# Altium integrated library Linear Technology Power Management Power Control.IntLib: 661 symbols (part 9 of 43)
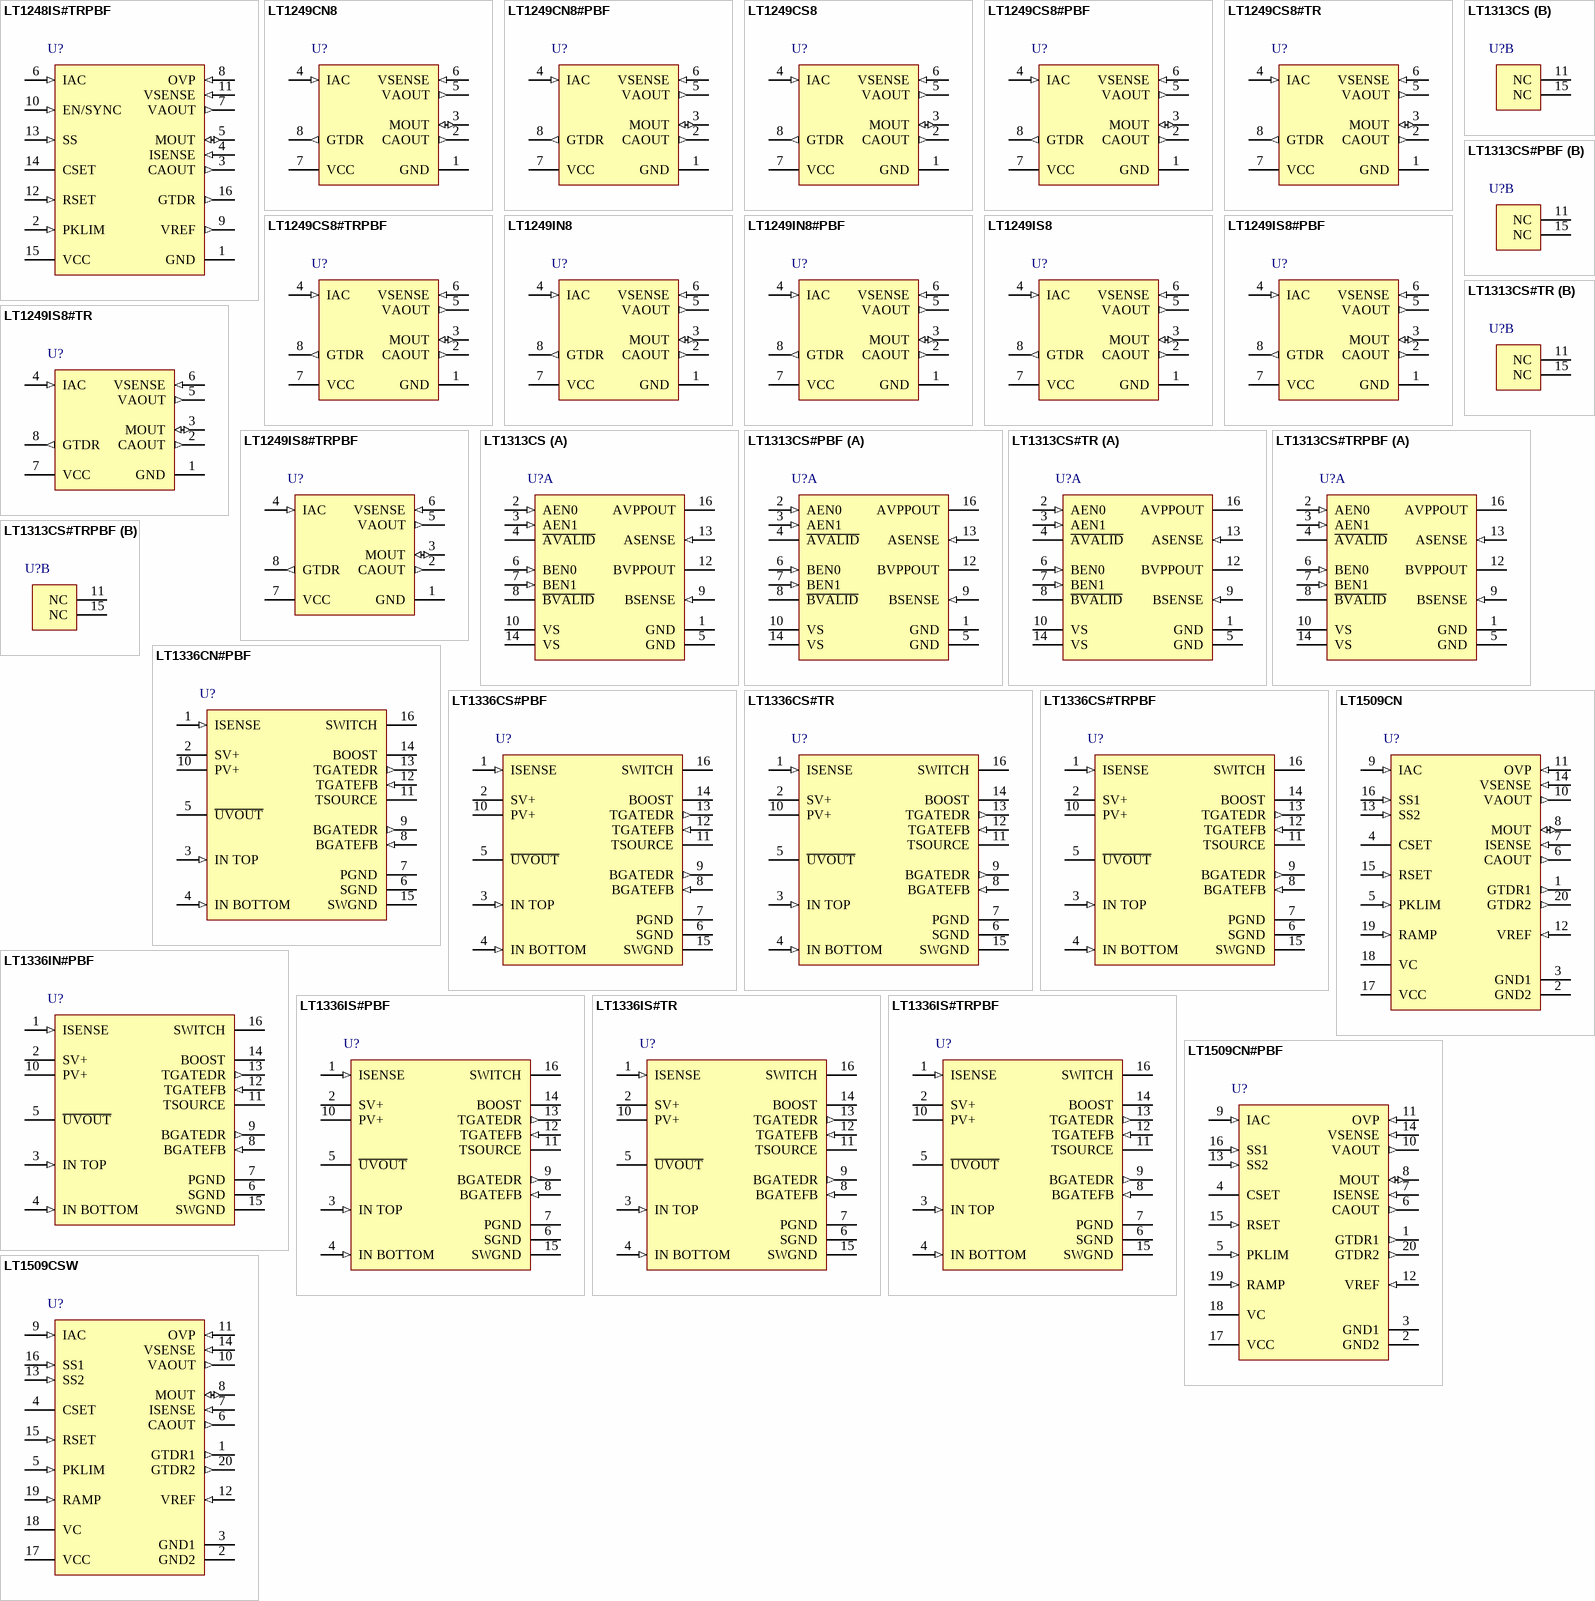
[diagram p27: symbols LT1248IS#TRPBF to LT1509CSW]

## LT1248IS#TRPBF
designator U?
Power Factor Controller, 16-pin SOP (S-16), -40 to 125 degC, Pb-Free, Tape and Reel; Manufacturer: Linear Technology; PartNumber: LT1248IS#TRPBF; DatasheetVersion: Rev. D; PackageVersion: Rev. G, 05/2012; PackageReference: S-16; PackageDescription: 16-Pin Plastic Small Outline, Body 9.9 x 3.9 mm, Pitch 1.27 mm; Supplier 1: Digi-Key; Supplier Part Number 1: LT1248IS#TRPBF-ND; Supplier 2: Newark; Supplier Part Number 2: 57M3024; Packing: Tape and Reel; RoHS: TRUE; Mounting Technology: Surface Mount; ComponentLink1Description: Manufacturer URL; ComponentLink1URL: http://www.linear.com/; ComponentLink2Description: Datasheet; ComponentLink2URL: http://cds.linear.com/docs/en/datasheet/1248fd.pdf; ComponentLink3Description: Package Specification; ComponentLink3URL: http://cds.linear.com/docs/en/packaging/S16%2005-08-1610%20Rev%20G.pdf
footprint LT-S-16_N (SOP, 16-Leads, Body 10x4mm, Pitch 1.27mm, IPC Medium Density)
footprint LT-S-16_L (SOP, 16-Leads, Body 10x4mm, Pitch 1.27mm, IPC High Density)
footprint LT-S-16_M (SOP, 16-Leads, Body 10x4mm, Pitch 1.27mm, IPC Low Density)
pins: 1 GND (power), 2 PKLIM (in) "The threshold of the peak current limit comparator is GND. To set current limit, a resistor divider can be connected from VREF to current sense resistor", 3 CAOUT (out) "This is the output of the current amplifier that senses and forces the line current to follow the reference signal that comes from the multiplier by commanding the pulse width modulator. When CAOUT is low, the modulator has (See Datasheet)", 4 ISENSE (in) "This is the inverting input of the current amplifier. This pin is clamped at - 0.6V by an ESD protection diode.", 5 MOUT (io) "This is the multiplier high impedance current output and the noninverting input of the current amplifier. This pin is clamped at - 0.6V and 2V.", 6 IAC (in) "This is the AC line voltage sensing input to the multiplier. It is a current input that is biased at 2V to minimize the crossover dead zone caused by low line voltage. At the pin, a 32k resistor is in series with the current (See Datasheet)", 7 VAOUT (out) "This is the output of the voltage error amplifier. The output is clamped at 13.5V. When the output goes below 2.5V, the multiplier output current is zero.", 8 OVP (in) "This is the input to the overvoltage comparator. The threshold is 1.05 times the reference voltage. When the comparator trips, the multiplier is quickly inhibited and outputs no current. Figure 4 in the Applications (See Datasheet)", 9 VREF (out) "This is the 7.5V reference. When either VCC or EN/SYNC goes low, VREF will stay at 0V. VREF biases most of the internal circuity and can source up to 5mA externally.", 10 EN/SYNC (in) "This pin has two functions. When it goes below 2.6V, the chip goes into shutdown mode and draws little current. Pulses at this pin that go below the 5V threshold will synchronize the chip. The synchronizing pulses should (See Datasheet)", 11 VSENSE (in) "This is the inverting input to the voltage amplifier.", 12 RSET (in) "A resistor from RSET to GND sets the oscillator charging current and the maximum multiplier output current which is used to limit the maximum line current.", 13 SS (in) "Soft-Start. When either VCC or EN/SYNC goes low, the SS pin will stay at 0V. With a capacitor from the pin to GND, the 12mA charging current slowly brings up the SS to 8V; below 7.5V SS is the reference input to the voltage (See Datasheet)", 14 CSET "The capacitor from this pin to GND, and RSET, determine oscillator frequency. The oscillator ramp is 5V, and the frequency = 1.5/(RSET x CSET).", 15 VCC (power) "This is the supply for the chip. The LT1248 has a very fast gate driver required to fast charge high power MOSFET gate capacitance. High current spikes occur during charging. For good supply bypass, a 0.1uF ceramic capacitor (See Datasheet)", 16 GTDR (out) "The MOSFET gate driver is a 1.5A fast totem pole output. It is clamped at 15V, but capacitive loads like MOSFET gates may cause overshoot. A gate series resistor of at least 5ohm will prevent the overshoot."

## LT1249CN8
designator U?
Power Factor Controller, 8-pin DIP (N8-8), 0 to 100 degC; Manufacturer: Linear Technology; PartNumber: LT1249CN8; DatasheetVersion: Rev. B; PackageVersion: Rev. I, 07/2011; PackageReference: N8-8; PackageDescription: 8-Pin PDIP, Body 10.16 x 6.48 mm, Pitch 2.54 mm; Supplier 1: Digi-Key; Supplier Part Number 1: LT1249CN8-ND; RoHS: FALSE; Mounting Technology: Through Hole; ComponentLink1Description: Manufacturer URL; ComponentLink1URL: http://www.linear.com/; ComponentLink2Description: Datasheet; ComponentLink2URL: http://cds.linear.com/docs/en/datasheet/1249fbs.pdf; ComponentLink3Description: Package Specification; ComponentLink3URL: http://www.linear.com/docs/en/packaging/05081510_I_N8.pdf
footprint LT-N8-8 (DIP, 8-Leads, Body 10.15x6.85mm, Pitch 2.54mm)
pins: 1 GND (power) "Ground.", 2 CAOUT (out) "This is the output of the current amplifier that senses and forces the line current to follow the reference signal that comes from the multiplier by commanding the pulse width modulator. When CAOUT is low, the modulator has (See Datasheet)", 3 MOUT (io) "The multiplier current goes out of this pin through the 4k resistor RMOUT. The voltage developed across RMOUT is the reference voltage of the current loop and it is limited to 1.1V. The noninverting input of the current (See Datasheet)", 4 IAC (in) "This is the AC line voltage sensing input to the multiplier. It is a current input that is biased at 2V to minimize the crossover dead zone caused by low line voltage. A 32k resistor is in series with the current input, so (See Datasheet)", 5 VAOUT (out) "This is the output of the voltage error amplifier. The output is clamped at 12V. When the output goes below 1.5V, the multiplier output current is zero.", 6 VSENSE (in) "This is the inverting input to the voltage amplifier.", 7 VCC (power) "This is the supply of the chip. The LT1249 has a very fast gate driver required to fast charge high power MOSFET gate capacitance. High current spikes occur during charging. For good supply bypass, a 0.1uF ceramic capacitor (See Datasheet)", 8 GTDR (out) "The MOSFET gate driver is a 1.5A fast totem pole output. It is clamped at 15V. Capacitive loads like MOSFET gates may cause overshoot. A gate series resistor of at least 5ohm will prevent the overshoot"

## LT1249CN8#PBF
designator U?
Power Factor Controller, 8-pin DIP (N8-8), 0 to 100 degC, Pb-Free; Manufacturer: Linear Technology; PartNumber: LT1249CN8#PBF; DatasheetVersion: Rev. B; PackageVersion: Rev. I, 07/2011; PackageReference: N8-8; PackageDescription: 8-Pin PDIP, Body 10.16 x 6.48 mm, Pitch 2.54 mm; Supplier 1: Digi-Key; Supplier Part Number 1: LT1249CN8#PBF-ND; Supplier 2: Farnell; Supplier Part Number 2: 1500514; Supplier 3: Newark; Supplier Part Number 3: 57M3026; RoHS: TRUE; Mounting Technology: Through Hole; ComponentLink1Description: Manufacturer URL; ComponentLink1URL: http://www.linear.com/; ComponentLink2Description: Datasheet; ComponentLink2URL: http://cds.linear.com/docs/en/datasheet/1249fbs.pdf; ComponentLink3Description: Package Specification; ComponentLink3URL: http://www.linear.com/docs/en/packaging/05081510_I_N8.pdf
footprint LT-N8-8 (DIP, 8-Leads, Body 10.15x6.85mm, Pitch 2.54mm)
pins: 1 GND (power) "Ground.", 2 CAOUT (out) "This is the output of the current amplifier that senses and forces the line current to follow the reference signal that comes from the multiplier by commanding the pulse width modulator. When CAOUT is low, the modulator has (See Datasheet)", 3 MOUT (io) "The multiplier current goes out of this pin through the 4k resistor RMOUT. The voltage developed across RMOUT is the reference voltage of the current loop and it is limited to 1.1V. The noninverting input of the current (See Datasheet)", 4 IAC (in) "This is the AC line voltage sensing input to the multiplier. It is a current input that is biased at 2V to minimize the crossover dead zone caused by low line voltage. A 32k resistor is in series with the current input, so (See Datasheet)", 5 VAOUT (out) "This is the output of the voltage error amplifier. The output is clamped at 12V. When the output goes below 1.5V, the multiplier output current is zero.", 6 VSENSE (in) "This is the inverting input to the voltage amplifier.", 7 VCC (power) "This is the supply of the chip. The LT1249 has a very fast gate driver required to fast charge high power MOSFET gate capacitance. High current spikes occur during charging. For good supply bypass, a 0.1uF ceramic capacitor (See Datasheet)", 8 GTDR (out) "The MOSFET gate driver is a 1.5A fast totem pole output. It is clamped at 15V. Capacitive loads like MOSFET gates may cause overshoot. A gate series resistor of at least 5ohm will prevent the overshoot"

## LT1249CS8
designator U?
Power Factor Controller, 8-pin SOIC (S8-8), 0 to 100 degC; Manufacturer: Linear Technology; PartNumber: LT1249CS8; DatasheetVersion: Rev. B; PackageVersion: Rev. G, 03/2012; PackageReference: S8-8; PackageDescription: 8-Pin Plastic Small Outline (Narrow .150 Inch), Body 4.9 x 3.9 mm, Pitch 1.27 mm; Supplier 1: Digi-Key; Supplier Part Number 1: LT1249CS8-ND; RoHS: FALSE; Mounting Technology: Surface Mount; ComponentLink1Description: Manufacturer URL; ComponentLink1URL: http://www.linear.com/; ComponentLink2Description: Datasheet; ComponentLink2URL: http://cds.linear.com/docs/en/datasheet/1249fbs.pdf; ComponentLink3Description: Package Specification; ComponentLink3URL: http://cds.linear.com/docs/en/packaging/05081610_G_SO8.pdf
footprint LT-S8-8_N (SOIC, 8-Leads, Body 5x4mm, Pitch 1.27mm, IPC Medium Density)
footprint LT-S8-8_L (SOIC, 8-Leads, Body 5x4mm, Pitch 1.27mm, IPC High Density)
footprint LT-S8-8_M (SOIC, 8-Leads, Body 5x4mm, Pitch 1.27mm, IPC Low Density)
pins: 1 GND (power) "Ground.", 2 CAOUT (out) "This is the output of the current amplifier that senses and forces the line current to follow the reference signal that comes from the multiplier by commanding the pulse width modulator. When CAOUT is low, the modulator has (See Datasheet)", 3 MOUT (io) "The multiplier current goes out of this pin through the 4k resistor RMOUT. The voltage developed across RMOUT is the reference voltage of the current loop and it is limited to 1.1V. The noninverting input of the current (See Datasheet)", 4 IAC (in) "This is the AC line voltage sensing input to the multiplier. It is a current input that is biased at 2V to minimize the crossover dead zone caused by low line voltage. A 32k resistor is in series with the current input, so (See Datasheet)", 5 VAOUT (out) "This is the output of the voltage error amplifier. The output is clamped at 12V. When the output goes below 1.5V, the multiplier output current is zero.", 6 VSENSE (in) "This is the inverting input to the voltage amplifier.", 7 VCC (power) "This is the supply of the chip. The LT1249 has a very fast gate driver required to fast charge high power MOSFET gate capacitance. High current spikes occur during charging. For good supply bypass, a 0.1uF ceramic capacitor (See Datasheet)", 8 GTDR (out) "The MOSFET gate driver is a 1.5A fast totem pole output. It is clamped at 15V. Capacitive loads like MOSFET gates may cause overshoot. A gate series resistor of at least 5ohm will prevent the overshoot"

## LT1249CS8#PBF
designator U?
Power Factor Controller, 8-pin SOIC (S8-8), 0 to 100 degC, Pb-Free; Manufacturer: Linear Technology; PartNumber: LT1249CS8#PBF; DatasheetVersion: Rev. B; PackageVersion: Rev. G, 03/2012; PackageReference: S8-8; PackageDescription: 8-Pin Plastic Small Outline (Narrow .150 Inch), Body 4.9 x 3.9 mm, Pitch 1.27 mm; Supplier 1: Digi-Key; Supplier Part Number 1: LT1249CS8#PBF-ND; Supplier 2: Farnell; Supplier Part Number 2: 1273703; RoHS: TRUE; Mounting Technology: Surface Mount; ComponentLink1Description: Manufacturer URL; ComponentLink1URL: http://www.linear.com/; ComponentLink2Description: Datasheet; ComponentLink2URL: http://cds.linear.com/docs/en/datasheet/1249fbs.pdf; ComponentLink3Description: Package Specification; ComponentLink3URL: http://cds.linear.com/docs/en/packaging/05081610_G_SO8.pdf
footprint LT-S8-8_N (SOIC, 8-Leads, Body 5x4mm, Pitch 1.27mm, IPC Medium Density)
footprint LT-S8-8_L (SOIC, 8-Leads, Body 5x4mm, Pitch 1.27mm, IPC High Density)
footprint LT-S8-8_M (SOIC, 8-Leads, Body 5x4mm, Pitch 1.27mm, IPC Low Density)
pins: 1 GND (power) "Ground.", 2 CAOUT (out) "This is the output of the current amplifier that senses and forces the line current to follow the reference signal that comes from the multiplier by commanding the pulse width modulator. When CAOUT is low, the modulator has (See Datasheet)", 3 MOUT (io) "The multiplier current goes out of this pin through the 4k resistor RMOUT. The voltage developed across RMOUT is the reference voltage of the current loop and it is limited to 1.1V. The noninverting input of the current (See Datasheet)", 4 IAC (in) "This is the AC line voltage sensing input to the multiplier. It is a current input that is biased at 2V to minimize the crossover dead zone caused by low line voltage. A 32k resistor is in series with the current input, so (See Datasheet)", 5 VAOUT (out) "This is the output of the voltage error amplifier. The output is clamped at 12V. When the output goes below 1.5V, the multiplier output current is zero.", 6 VSENSE (in) "This is the inverting input to the voltage amplifier.", 7 VCC (power) "This is the supply of the chip. The LT1249 has a very fast gate driver required to fast charge high power MOSFET gate capacitance. High current spikes occur during charging. For good supply bypass, a 0.1uF ceramic capacitor (See Datasheet)", 8 GTDR (out) "The MOSFET gate driver is a 1.5A fast totem pole output. It is clamped at 15V. Capacitive loads like MOSFET gates may cause overshoot. A gate series resistor of at least 5ohm will prevent the overshoot"

## LT1249CS8#TR
designator U?
Power Factor Controller, 8-pin SOIC (S8-8), 0 to 100 degC, Tape and Reel; Manufacturer: Linear Technology; PartNumber: LT1249CS8#TR; DatasheetVersion: Rev. B; PackageVersion: Rev. G, 03/2012; PackageReference: S8-8; PackageDescription: 8-Pin Plastic Small Outline (Narrow .150 Inch), Body 4.9 x 3.9 mm, Pitch 1.27 mm; Supplier 1: Digi-Key; Supplier Part Number 1: LT1249CS8#TR-ND; Packing: Tape and Reel; RoHS: FALSE; Mounting Technology: Surface Mount; ComponentLink1Description: Manufacturer URL; ComponentLink1URL: http://www.linear.com/; ComponentLink2Description: Datasheet; ComponentLink2URL: http://cds.linear.com/docs/en/datasheet/1249fbs.pdf; ComponentLink3Description: Package Specification; ComponentLink3URL: http://cds.linear.com/docs/en/packaging/05081610_G_SO8.pdf
footprint LT-S8-8_N (SOIC, 8-Leads, Body 5x4mm, Pitch 1.27mm, IPC Medium Density)
footprint LT-S8-8_L (SOIC, 8-Leads, Body 5x4mm, Pitch 1.27mm, IPC High Density)
footprint LT-S8-8_M (SOIC, 8-Leads, Body 5x4mm, Pitch 1.27mm, IPC Low Density)
pins: 1 GND (power) "Ground.", 2 CAOUT (out) "This is the output of the current amplifier that senses and forces the line current to follow the reference signal that comes from the multiplier by commanding the pulse width modulator. When CAOUT is low, the modulator has (See Datasheet)", 3 MOUT (io) "The multiplier current goes out of this pin through the 4k resistor RMOUT. The voltage developed across RMOUT is the reference voltage of the current loop and it is limited to 1.1V. The noninverting input of the current (See Datasheet)", 4 IAC (in) "This is the AC line voltage sensing input to the multiplier. It is a current input that is biased at 2V to minimize the crossover dead zone caused by low line voltage. A 32k resistor is in series with the current input, so (See Datasheet)", 5 VAOUT (out) "This is the output of the voltage error amplifier. The output is clamped at 12V. When the output goes below 1.5V, the multiplier output current is zero.", 6 VSENSE (in) "This is the inverting input to the voltage amplifier.", 7 VCC (power) "This is the supply of the chip. The LT1249 has a very fast gate driver required to fast charge high power MOSFET gate capacitance. High current spikes occur during charging. For good supply bypass, a 0.1uF ceramic capacitor (See Datasheet)", 8 GTDR (out) "The MOSFET gate driver is a 1.5A fast totem pole output. It is clamped at 15V. Capacitive loads like MOSFET gates may cause overshoot. A gate series resistor of at least 5ohm will prevent the overshoot"

## LT1249CS8#TRPBF
designator U?
Power Factor Controller, 8-pin SOIC (S8-8), 0 to 100 degC, Pb-Free, Tape and Reel; Manufacturer: Linear Technology; PartNumber: LT1249CS8#TRPBF; DatasheetVersion: Rev. B; PackageVersion: Rev. G, 03/2012; PackageReference: S8-8; PackageDescription: 8-Pin Plastic Small Outline (Narrow .150 Inch), Body 4.9 x 3.9 mm, Pitch 1.27 mm; Supplier 1: Digi-Key; Supplier Part Number 1: LT1249CS8#TRPBF-ND; Packing: Tape and Reel; RoHS: TRUE; Mounting Technology: Surface Mount; ComponentLink1Description: Manufacturer URL; ComponentLink1URL: http://www.linear.com/; ComponentLink2Description: Datasheet; ComponentLink2URL: http://cds.linear.com/docs/en/datasheet/1249fbs.pdf; ComponentLink3Description: Package Specification; ComponentLink3URL: http://cds.linear.com/docs/en/packaging/05081610_G_SO8.pdf
footprint LT-S8-8_N (SOIC, 8-Leads, Body 5x4mm, Pitch 1.27mm, IPC Medium Density)
footprint LT-S8-8_L (SOIC, 8-Leads, Body 5x4mm, Pitch 1.27mm, IPC High Density)
footprint LT-S8-8_M (SOIC, 8-Leads, Body 5x4mm, Pitch 1.27mm, IPC Low Density)
pins: 1 GND (power) "Ground.", 2 CAOUT (out) "This is the output of the current amplifier that senses and forces the line current to follow the reference signal that comes from the multiplier by commanding the pulse width modulator. When CAOUT is low, the modulator has (See Datasheet)", 3 MOUT (io) "The multiplier current goes out of this pin through the 4k resistor RMOUT. The voltage developed across RMOUT is the reference voltage of the current loop and it is limited to 1.1V. The noninverting input of the current (See Datasheet)", 4 IAC (in) "This is the AC line voltage sensing input to the multiplier. It is a current input that is biased at 2V to minimize the crossover dead zone caused by low line voltage. A 32k resistor is in series with the current input, so (See Datasheet)", 5 VAOUT (out) "This is the output of the voltage error amplifier. The output is clamped at 12V. When the output goes below 1.5V, the multiplier output current is zero.", 6 VSENSE (in) "This is the inverting input to the voltage amplifier.", 7 VCC (power) "This is the supply of the chip. The LT1249 has a very fast gate driver required to fast charge high power MOSFET gate capacitance. High current spikes occur during charging. For good supply bypass, a 0.1uF ceramic capacitor (See Datasheet)", 8 GTDR (out) "The MOSFET gate driver is a 1.5A fast totem pole output. It is clamped at 15V. Capacitive loads like MOSFET gates may cause overshoot. A gate series resistor of at least 5ohm will prevent the overshoot"

## LT1249IN8
designator U?
Power Factor Controller, 8-pin DIP (N8-8), -40 to 125 degC; Manufacturer: Linear Technology; PartNumber: LT1249IN8; DatasheetVersion: Rev. B; PackageVersion: Rev. I, 07/2011; PackageReference: N8-8; PackageDescription: 8-Pin PDIP, Body 10.16 x 6.48 mm, Pitch 2.54 mm; Supplier 1: Digi-Key; Supplier Part Number 1: LT1249IN8-ND; RoHS: FALSE; Mounting Technology: Through Hole; ComponentLink1Description: Manufacturer URL; ComponentLink1URL: http://www.linear.com/; ComponentLink2Description: Datasheet; ComponentLink2URL: http://cds.linear.com/docs/en/datasheet/1249fbs.pdf; ComponentLink3Description: Package Specification; ComponentLink3URL: http://www.linear.com/docs/en/packaging/05081510_I_N8.pdf
footprint LT-N8-8 (DIP, 8-Leads, Body 10.15x6.85mm, Pitch 2.54mm)
pins: 1 GND (power) "Ground.", 2 CAOUT (out) "This is the output of the current amplifier that senses and forces the line current to follow the reference signal that comes from the multiplier by commanding the pulse width modulator. When CAOUT is low, the modulator has (See Datasheet)", 3 MOUT (io) "The multiplier current goes out of this pin through the 4k resistor RMOUT. The voltage developed across RMOUT is the reference voltage of the current loop and it is limited to 1.1V. The noninverting input of the current (See Datasheet)", 4 IAC (in) "This is the AC line voltage sensing input to the multiplier. It is a current input that is biased at 2V to minimize the crossover dead zone caused by low line voltage. A 32k resistor is in series with the current input, so (See Datasheet)", 5 VAOUT (out) "This is the output of the voltage error amplifier. The output is clamped at 12V. When the output goes below 1.5V, the multiplier output current is zero.", 6 VSENSE (in) "This is the inverting input to the voltage amplifier.", 7 VCC (power) "This is the supply of the chip. The LT1249 has a very fast gate driver required to fast charge high power MOSFET gate capacitance. High current spikes occur during charging. For good supply bypass, a 0.1uF ceramic capacitor (See Datasheet)", 8 GTDR (out) "The MOSFET gate driver is a 1.5A fast totem pole output. It is clamped at 15V. Capacitive loads like MOSFET gates may cause overshoot. A gate series resistor of at least 5ohm will prevent the overshoot"

## LT1249IN8#PBF
designator U?
Power Factor Controller, 8-pin DIP (N8-8), -40 to 125 degC, Pb-Free; Manufacturer: Linear Technology; PartNumber: LT1249IN8#PBF; DatasheetVersion: Rev. B; PackageVersion: Rev. I, 07/2011; PackageReference: N8-8; PackageDescription: 8-Pin PDIP, Body 10.16 x 6.48 mm, Pitch 2.54 mm; Supplier 1: Digi-Key; Supplier Part Number 1: LT1249IN8#PBF-ND; RoHS: TRUE; Mounting Technology: Through Hole; ComponentLink1Description: Manufacturer URL; ComponentLink1URL: http://www.linear.com/; ComponentLink2Description: Datasheet; ComponentLink2URL: http://cds.linear.com/docs/en/datasheet/1249fbs.pdf; ComponentLink3Description: Package Specification; ComponentLink3URL: http://www.linear.com/docs/en/packaging/05081510_I_N8.pdf
footprint LT-N8-8 (DIP, 8-Leads, Body 10.15x6.85mm, Pitch 2.54mm)
pins: 1 GND (power) "Ground.", 2 CAOUT (out) "This is the output of the current amplifier that senses and forces the line current to follow the reference signal that comes from the multiplier by commanding the pulse width modulator. When CAOUT is low, the modulator has (See Datasheet)", 3 MOUT (io) "The multiplier current goes out of this pin through the 4k resistor RMOUT. The voltage developed across RMOUT is the reference voltage of the current loop and it is limited to 1.1V. The noninverting input of the current (See Datasheet)", 4 IAC (in) "This is the AC line voltage sensing input to the multiplier. It is a current input that is biased at 2V to minimize the crossover dead zone caused by low line voltage. A 32k resistor is in series with the current input, so (See Datasheet)", 5 VAOUT (out) "This is the output of the voltage error amplifier. The output is clamped at 12V. When the output goes below 1.5V, the multiplier output current is zero.", 6 VSENSE (in) "This is the inverting input to the voltage amplifier.", 7 VCC (power) "This is the supply of the chip. The LT1249 has a very fast gate driver required to fast charge high power MOSFET gate capacitance. High current spikes occur during charging. For good supply bypass, a 0.1uF ceramic capacitor (See Datasheet)", 8 GTDR (out) "The MOSFET gate driver is a 1.5A fast totem pole output. It is clamped at 15V. Capacitive loads like MOSFET gates may cause overshoot. A gate series resistor of at least 5ohm will prevent the overshoot"

## LT1249IS8
designator U?
Power Factor Controller, 8-pin SOIC (S8-8), -40 to 125 degC; Manufacturer: Linear Technology; PartNumber: LT1249IS8; DatasheetVersion: Rev. B; PackageVersion: Rev. G, 03/2012; PackageReference: S8-8; PackageDescription: 8-Pin Plastic Small Outline (Narrow .150 Inch), Body 4.9 x 3.9 mm, Pitch 1.27 mm; Supplier 1: Digi-Key; Supplier Part Number 1: LT1249IS8-ND; RoHS: FALSE; Mounting Technology: Surface Mount; ComponentLink1Description: Manufacturer URL; ComponentLink1URL: http://www.linear.com/; ComponentLink2Description: Datasheet; ComponentLink2URL: http://cds.linear.com/docs/en/datasheet/1249fbs.pdf; ComponentLink3Description: Package Specification; ComponentLink3URL: http://cds.linear.com/docs/en/packaging/05081610_G_SO8.pdf
footprint LT-S8-8_N (SOIC, 8-Leads, Body 5x4mm, Pitch 1.27mm, IPC Medium Density)
footprint LT-S8-8_L (SOIC, 8-Leads, Body 5x4mm, Pitch 1.27mm, IPC High Density)
footprint LT-S8-8_M (SOIC, 8-Leads, Body 5x4mm, Pitch 1.27mm, IPC Low Density)
pins: 1 GND (power) "Ground.", 2 CAOUT (out) "This is the output of the current amplifier that senses and forces the line current to follow the reference signal that comes from the multiplier by commanding the pulse width modulator. When CAOUT is low, the modulator has (See Datasheet)", 3 MOUT (io) "The multiplier current goes out of this pin through the 4k resistor RMOUT. The voltage developed across RMOUT is the reference voltage of the current loop and it is limited to 1.1V. The noninverting input of the current (See Datasheet)", 4 IAC (in) "This is the AC line voltage sensing input to the multiplier. It is a current input that is biased at 2V to minimize the crossover dead zone caused by low line voltage. A 32k resistor is in series with the current input, so (See Datasheet)", 5 VAOUT (out) "This is the output of the voltage error amplifier. The output is clamped at 12V. When the output goes below 1.5V, the multiplier output current is zero.", 6 VSENSE (in) "This is the inverting input to the voltage amplifier.", 7 VCC (power) "This is the supply of the chip. The LT1249 has a very fast gate driver required to fast charge high power MOSFET gate capacitance. High current spikes occur during charging. For good supply bypass, a 0.1uF ceramic capacitor (See Datasheet)", 8 GTDR (out) "The MOSFET gate driver is a 1.5A fast totem pole output. It is clamped at 15V. Capacitive loads like MOSFET gates may cause overshoot. A gate series resistor of at least 5ohm will prevent the overshoot"

## LT1249IS8#PBF
designator U?
Power Factor Controller, 8-pin SOIC (S8-8), -40 to 125 degC, Pb-Free; Manufacturer: Linear Technology; PartNumber: LT1249IS8#PBF; DatasheetVersion: Rev. B; PackageVersion: Rev. G, 03/2012; PackageReference: S8-8; PackageDescription: 8-Pin Plastic Small Outline (Narrow .150 Inch), Body 4.9 x 3.9 mm, Pitch 1.27 mm; Supplier 1: Digi-Key; Supplier Part Number 1: LT1249IS8#PBF-ND; RoHS: TRUE; Mounting Technology: Surface Mount; ComponentLink1Description: Manufacturer URL; ComponentLink1URL: http://www.linear.com/; ComponentLink2Description: Datasheet; ComponentLink2URL: http://cds.linear.com/docs/en/datasheet/1249fbs.pdf; ComponentLink3Description: Package Specification; ComponentLink3URL: http://cds.linear.com/docs/en/packaging/05081610_G_SO8.pdf
footprint LT-S8-8_N (SOIC, 8-Leads, Body 5x4mm, Pitch 1.27mm, IPC Medium Density)
footprint LT-S8-8_L (SOIC, 8-Leads, Body 5x4mm, Pitch 1.27mm, IPC High Density)
footprint LT-S8-8_M (SOIC, 8-Leads, Body 5x4mm, Pitch 1.27mm, IPC Low Density)
pins: 1 GND (power) "Ground.", 2 CAOUT (out) "This is the output of the current amplifier that senses and forces the line current to follow the reference signal that comes from the multiplier by commanding the pulse width modulator. When CAOUT is low, the modulator has (See Datasheet)", 3 MOUT (io) "The multiplier current goes out of this pin through the 4k resistor RMOUT. The voltage developed across RMOUT is the reference voltage of the current loop and it is limited to 1.1V. The noninverting input of the current (See Datasheet)", 4 IAC (in) "This is the AC line voltage sensing input to the multiplier. It is a current input that is biased at 2V to minimize the crossover dead zone caused by low line voltage. A 32k resistor is in series with the current input, so (See Datasheet)", 5 VAOUT (out) "This is the output of the voltage error amplifier. The output is clamped at 12V. When the output goes below 1.5V, the multiplier output current is zero.", 6 VSENSE (in) "This is the inverting input to the voltage amplifier.", 7 VCC (power) "This is the supply of the chip. The LT1249 has a very fast gate driver required to fast charge high power MOSFET gate capacitance. High current spikes occur during charging. For good supply bypass, a 0.1uF ceramic capacitor (See Datasheet)", 8 GTDR (out) "The MOSFET gate driver is a 1.5A fast totem pole output. It is clamped at 15V. Capacitive loads like MOSFET gates may cause overshoot. A gate series resistor of at least 5ohm will prevent the overshoot"

## LT1249IS8#TR
designator U?
Power Factor Controller, 8-pin SOIC (S8-8), -40 to 125 degC, Tape and Reel; Manufacturer: Linear Technology; PartNumber: LT1249IS8#TR; DatasheetVersion: Rev. B; PackageVersion: Rev. G, 03/2012; PackageReference: S8-8; PackageDescription: 8-Pin Plastic Small Outline (Narrow .150 Inch), Body 4.9 x 3.9 mm, Pitch 1.27 mm; Supplier 1: Digi-Key; Supplier Part Number 1: LT1249IS8#TR-ND; Packing: Tape and Reel; RoHS: FALSE; Mounting Technology: Surface Mount; ComponentLink1Description: Manufacturer URL; ComponentLink1URL: http://www.linear.com/; ComponentLink2Description: Datasheet; ComponentLink2URL: http://cds.linear.com/docs/en/datasheet/1249fbs.pdf; ComponentLink3Description: Package Specification; ComponentLink3URL: http://cds.linear.com/docs/en/packaging/05081610_G_SO8.pdf
footprint LT-S8-8_N (SOIC, 8-Leads, Body 5x4mm, Pitch 1.27mm, IPC Medium Density)
footprint LT-S8-8_L (SOIC, 8-Leads, Body 5x4mm, Pitch 1.27mm, IPC High Density)
footprint LT-S8-8_M (SOIC, 8-Leads, Body 5x4mm, Pitch 1.27mm, IPC Low Density)
pins: 1 GND (power) "Ground.", 2 CAOUT (out) "This is the output of the current amplifier that senses and forces the line current to follow the reference signal that comes from the multiplier by commanding the pulse width modulator. When CAOUT is low, the modulator has (See Datasheet)", 3 MOUT (io) "The multiplier current goes out of this pin through the 4k resistor RMOUT. The voltage developed across RMOUT is the reference voltage of the current loop and it is limited to 1.1V. The noninverting input of the current (See Datasheet)", 4 IAC (in) "This is the AC line voltage sensing input to the multiplier. It is a current input that is biased at 2V to minimize the crossover dead zone caused by low line voltage. A 32k resistor is in series with the current input, so (See Datasheet)", 5 VAOUT (out) "This is the output of the voltage error amplifier. The output is clamped at 12V. When the output goes below 1.5V, the multiplier output current is zero.", 6 VSENSE (in) "This is the inverting input to the voltage amplifier.", 7 VCC (power) "This is the supply of the chip. The LT1249 has a very fast gate driver required to fast charge high power MOSFET gate capacitance. High current spikes occur during charging. For good supply bypass, a 0.1uF ceramic capacitor (See Datasheet)", 8 GTDR (out) "The MOSFET gate driver is a 1.5A fast totem pole output. It is clamped at 15V. Capacitive loads like MOSFET gates may cause overshoot. A gate series resistor of at least 5ohm will prevent the overshoot"

## LT1249IS8#TRPBF
designator U?
Power Factor Controller, 8-pin SOIC (S8-8), -40 to 125 degC, Pb-Free, Tape and Reel; Manufacturer: Linear Technology; PartNumber: LT1249IS8#TRPBF; DatasheetVersion: Rev. B; PackageVersion: Rev. G, 03/2012; PackageReference: S8-8; PackageDescription: 8-Pin Plastic Small Outline (Narrow .150 Inch), Body 4.9 x 3.9 mm, Pitch 1.27 mm; Supplier 1: Digi-Key; Supplier Part Number 1: LT1249IS8#TRPBF-ND; Supplier 2: Newark; Supplier Part Number 2: 57M3036; Packing: Tape and Reel; RoHS: TRUE; Mounting Technology: Surface Mount; ComponentLink1Description: Manufacturer URL; ComponentLink1URL: http://www.linear.com/; ComponentLink2Description: Datasheet; ComponentLink2URL: http://cds.linear.com/docs/en/datasheet/1249fbs.pdf; ComponentLink3Description: Package Specification; ComponentLink3URL: http://cds.linear.com/docs/en/packaging/05081610_G_SO8.pdf
footprint LT-S8-8_N (SOIC, 8-Leads, Body 5x4mm, Pitch 1.27mm, IPC Medium Density)
footprint LT-S8-8_L (SOIC, 8-Leads, Body 5x4mm, Pitch 1.27mm, IPC High Density)
footprint LT-S8-8_M (SOIC, 8-Leads, Body 5x4mm, Pitch 1.27mm, IPC Low Density)
pins: 1 GND (power) "Ground.", 2 CAOUT (out) "This is the output of the current amplifier that senses and forces the line current to follow the reference signal that comes from the multiplier by commanding the pulse width modulator. When CAOUT is low, the modulator has (See Datasheet)", 3 MOUT (io) "The multiplier current goes out of this pin through the 4k resistor RMOUT. The voltage developed across RMOUT is the reference voltage of the current loop and it is limited to 1.1V. The noninverting input of the current (See Datasheet)", 4 IAC (in) "This is the AC line voltage sensing input to the multiplier. It is a current input that is biased at 2V to minimize the crossover dead zone caused by low line voltage. A 32k resistor is in series with the current input, so (See Datasheet)", 5 VAOUT (out) "This is the output of the voltage error amplifier. The output is clamped at 12V. When the output goes below 1.5V, the multiplier output current is zero.", 6 VSENSE (in) "This is the inverting input to the voltage amplifier.", 7 VCC (power) "This is the supply of the chip. The LT1249 has a very fast gate driver required to fast charge high power MOSFET gate capacitance. High current spikes occur during charging. For good supply bypass, a 0.1uF ceramic capacitor (See Datasheet)", 8 GTDR (out) "The MOSFET gate driver is a 1.5A fast totem pole output. It is clamped at 15V. Capacitive loads like MOSFET gates may cause overshoot. A gate series resistor of at least 5ohm will prevent the overshoot"

## LT1313CS
designator U?
Dual PCMCIA VPP Driver / Regulator, 13 to 20 V Vin, 16-pin SOP (S-16), 0 to 70 degC; Manufacturer: Linear Technology; PartNumber: LT1313CS; PackageVersion: Rev. G, 05/2012; PackageReference: S-16; PackageDescription: 16-Pin Plastic Small Outline, Body 9.9 x 3.9 mm, Pitch 1.27 mm; Supplier 1: Digi-Key; Supplier Part Number 1: LT1313CS-ND; RoHS: FALSE; Mounting Technology: Surface Mount; ComponentLink1Description: Manufacturer URL; ComponentLink1URL: http://www.linear.com/; ComponentLink2Description: Datasheet; ComponentLink2URL: http://cds.linear.com/docs/en/datasheet/lt1313.pdf; ComponentLink3Description: Package Specification; ComponentLink3URL: http://cds.linear.com/docs/en/packaging/S16%2005-08-1610%20Rev%20G.pdf
footprint LT-S-16_N (SOP, 16-Leads, Body 10x4mm, Pitch 1.27mm, IPC Medium Density)
footprint LT-S-16_L (SOP, 16-Leads, Body 10x4mm, Pitch 1.27mm, IPC High Density)
footprint LT-S-16_M (SOP, 16-Leads, Body 10x4mm, Pitch 1.27mm, IPC Low Density)
part A pins: 1 GND (power) "The two ground pins must be connected together at all times.", 2 AEN0 (in) "The four digital input pins are high impedance inputs with approximately 20uA input current at 2.4V. The input thresholds are compatible with CMOS controllers and can be driven from either 5V or 3.3V CMOS logic. ESD (See Datasheet)", 3 AEN1 (in) "The four digital input pins are high impedance inputs with approximately 20uA input current at 2.4V. The input thresholds are compatible with CMOS controllers and can be driven from either 5V or 3.3V CMOS logic. ESD (See Datasheet)", 4 ~{AVALID} (oc) "These pins are open-collector NPN outputs which are driven low when the corresponding VPPOUT pin is in regulation, i.e., when it is above 11V. Two external 51k pull-up resistors are connected between these outputs and the (See Datasheet)", 5 GND (power) "The two ground pins must be connected together at all times.", 6 BEN0 (in) "The four digital input pins are high impedance inputs with approximately 20uA input current at 2.4V. The input thresholds are compatible with CMOS controllers and can be driven from either 5V or 3.3V CMOS logic. ESD (See Datasheet)", 7 BEN1 (in) "The four digital input pins are high impedance inputs with approximately 20uA input current at 2.4V. The input thresholds are compatible with CMOS controllers and can be driven from either 5V or 3.3V CMOS logic. ESD (See Datasheet)", 8 ~{BVALID} (oc) "These pins are open-collector NPN outputs which are driven low when the corresponding VPPOUT pin is in regulation, i.e., when it is above 11V. Two external 51k pull-up resistors are connected between these outputs and the (See Datasheet)", 9 BSENSE (in) "Two independent comparators and 4V references automatically switch the VPPOUT outputs from 5V to 3.3V depending upon the voltage sensed at the corresponding PCMCIA card socket VCC pin. The input current for these pins is (See Datasheet)", 10 VS (power) "Power is supplied to the device through the two supply pins which must be connected together at all times . The supply pins should be bypassed to ground if the device is more than six inches away from the main supply (See Datasheet)", 12 BVPPOUT (power) "Each regulated output supplies power to the two PCMCIA card VPP pins which are typically tied together at the socket. Each VPPOUT output is current limited to approximately 330mA. Thermal shutdown provides a second level of (See Datasheet)", 13 ASENSE (in) "Two independent comparators and 4V references automatically switch the VPPOUT outputs from 5V to 3.3V depending upon the voltage sensed at the corresponding PCMCIA card socket VCC pin. The input current for these pins is (See Datasheet)", 14 VS (power) "Power is supplied to the device through the two supply pins which must be connected together at all times . The supply pins should be bypassed to ground if the device is more than six inches away from the main supply (See Datasheet)", 16 AVPPOUT (power) "Each regulated output supplies power to the two PCMCIA card VPP pins which are typically tied together at the socket. Each VPPOUT output is current limited to approximately 330mA. Thermal shutdown provides a second level of (See Datasheet)"
part B pins: 11 NC, 15 NC

## LT1313CS#PBF
designator U?
Dual PCMCIA VPP Driver / Regulator, 13 to 20 V Vin, 16-pin SOP (S-16), 0 to 70 degC, Pb-Free; Manufacturer: Linear Technology; PartNumber: LT1313CS#PBF; PackageVersion: Rev. G, 05/2012; PackageReference: S-16; PackageDescription: 16-Pin Plastic Small Outline, Body 9.9 x 3.9 mm, Pitch 1.27 mm; Supplier 1: Digi-Key; Supplier Part Number 1: LT1313CS#PBF-ND; RoHS: TRUE; Mounting Technology: Surface Mount; ComponentLink1Description: Manufacturer URL; ComponentLink1URL: http://www.linear.com/; ComponentLink2Description: Datasheet; ComponentLink2URL: http://cds.linear.com/docs/en/datasheet/lt1313.pdf; ComponentLink3Description: Package Specification; ComponentLink3URL: http://cds.linear.com/docs/en/packaging/S16%2005-08-1610%20Rev%20G.pdf
footprint LT-S-16_N (SOP, 16-Leads, Body 10x4mm, Pitch 1.27mm, IPC Medium Density)
footprint LT-S-16_L (SOP, 16-Leads, Body 10x4mm, Pitch 1.27mm, IPC High Density)
footprint LT-S-16_M (SOP, 16-Leads, Body 10x4mm, Pitch 1.27mm, IPC Low Density)
part A pins: 1 GND (power) "The two ground pins must be connected together at all times.", 2 AEN0 (in) "The four digital input pins are high impedance inputs with approximately 20uA input current at 2.4V. The input thresholds are compatible with CMOS controllers and can be driven from either 5V or 3.3V CMOS logic. ESD (See Datasheet)", 3 AEN1 (in) "The four digital input pins are high impedance inputs with approximately 20uA input current at 2.4V. The input thresholds are compatible with CMOS controllers and can be driven from either 5V or 3.3V CMOS logic. ESD (See Datasheet)", 4 ~{AVALID} (oc) "These pins are open-collector NPN outputs which are driven low when the corresponding VPPOUT pin is in regulation, i.e., when it is above 11V. Two external 51k pull-up resistors are connected between these outputs and the (See Datasheet)", 5 GND (power) "The two ground pins must be connected together at all times.", 6 BEN0 (in) "The four digital input pins are high impedance inputs with approximately 20uA input current at 2.4V. The input thresholds are compatible with CMOS controllers and can be driven from either 5V or 3.3V CMOS logic. ESD (See Datasheet)", 7 BEN1 (in) "The four digital input pins are high impedance inputs with approximately 20uA input current at 2.4V. The input thresholds are compatible with CMOS controllers and can be driven from either 5V or 3.3V CMOS logic. ESD (See Datasheet)", 8 ~{BVALID} (oc) "These pins are open-collector NPN outputs which are driven low when the corresponding VPPOUT pin is in regulation, i.e., when it is above 11V. Two external 51k pull-up resistors are connected between these outputs and the (See Datasheet)", 9 BSENSE (in) "Two independent comparators and 4V references automatically switch the VPPOUT outputs from 5V to 3.3V depending upon the voltage sensed at the corresponding PCMCIA card socket VCC pin. The input current for these pins is (See Datasheet)", 10 VS (power) "Power is supplied to the device through the two supply pins which must be connected together at all times . The supply pins should be bypassed to ground if the device is more than six inches away from the main supply (See Datasheet)", 12 BVPPOUT (power) "Each regulated output supplies power to the two PCMCIA card VPP pins which are typically tied together at the socket. Each VPPOUT output is current limited to approximately 330mA. Thermal shutdown provides a second level of (See Datasheet)", 13 ASENSE (in) "Two independent comparators and 4V references automatically switch the VPPOUT outputs from 5V to 3.3V depending upon the voltage sensed at the corresponding PCMCIA card socket VCC pin. The input current for these pins is (See Datasheet)", 14 VS (power) "Power is supplied to the device through the two supply pins which must be connected together at all times . The supply pins should be bypassed to ground if the device is more than six inches away from the main supply (See Datasheet)", 16 AVPPOUT (power) "Each regulated output supplies power to the two PCMCIA card VPP pins which are typically tied together at the socket. Each VPPOUT output is current limited to approximately 330mA. Thermal shutdown provides a second level of (See Datasheet)"
part B pins: 11 NC, 15 NC

## LT1313CS#TR
designator U?
Dual PCMCIA VPP Driver / Regulator, 13 to 20 V Vin, 16-pin SOP (S-16), 0 to 70 degC, Tape and Reel; Manufacturer: Linear Technology; PartNumber: LT1313CS#TR; PackageVersion: Rev. G, 05/2012; PackageReference: S-16; PackageDescription: 16-Pin Plastic Small Outline, Body 9.9 x 3.9 mm, Pitch 1.27 mm; Supplier 1: Digi-Key; Supplier Part Number 1: LT1313CS#TR-ND; Packing: Tape and Reel; RoHS: FALSE; Mounting Technology: Surface Mount; ComponentLink1Description: Manufacturer URL; ComponentLink1URL: http://www.linear.com/; ComponentLink2Description: Datasheet; ComponentLink2URL: http://cds.linear.com/docs/en/datasheet/lt1313.pdf; ComponentLink3Description: Package Specification; ComponentLink3URL: http://cds.linear.com/docs/en/packaging/S16%2005-08-1610%20Rev%20G.pdf
footprint LT-S-16_N (SOP, 16-Leads, Body 10x4mm, Pitch 1.27mm, IPC Medium Density)
footprint LT-S-16_L (SOP, 16-Leads, Body 10x4mm, Pitch 1.27mm, IPC High Density)
footprint LT-S-16_M (SOP, 16-Leads, Body 10x4mm, Pitch 1.27mm, IPC Low Density)
part A pins: 1 GND (power) "The two ground pins must be connected together at all times.", 2 AEN0 (in) "The four digital input pins are high impedance inputs with approximately 20uA input current at 2.4V. The input thresholds are compatible with CMOS controllers and can be driven from either 5V or 3.3V CMOS logic. ESD (See Datasheet)", 3 AEN1 (in) "The four digital input pins are high impedance inputs with approximately 20uA input current at 2.4V. The input thresholds are compatible with CMOS controllers and can be driven from either 5V or 3.3V CMOS logic. ESD (See Datasheet)", 4 ~{AVALID} (oc) "These pins are open-collector NPN outputs which are driven low when the corresponding VPPOUT pin is in regulation, i.e., when it is above 11V. Two external 51k pull-up resistors are connected between these outputs and the (See Datasheet)", 5 GND (power) "The two ground pins must be connected together at all times.", 6 BEN0 (in) "The four digital input pins are high impedance inputs with approximately 20uA input current at 2.4V. The input thresholds are compatible with CMOS controllers and can be driven from either 5V or 3.3V CMOS logic. ESD (See Datasheet)", 7 BEN1 (in) "The four digital input pins are high impedance inputs with approximately 20uA input current at 2.4V. The input thresholds are compatible with CMOS controllers and can be driven from either 5V or 3.3V CMOS logic. ESD (See Datasheet)", 8 ~{BVALID} (oc) "These pins are open-collector NPN outputs which are driven low when the corresponding VPPOUT pin is in regulation, i.e., when it is above 11V. Two external 51k pull-up resistors are connected between these outputs and the (See Datasheet)", 9 BSENSE (in) "Two independent comparators and 4V references automatically switch the VPPOUT outputs from 5V to 3.3V depending upon the voltage sensed at the corresponding PCMCIA card socket VCC pin. The input current for these pins is (See Datasheet)", 10 VS (power) "Power is supplied to the device through the two supply pins which must be connected together at all times . The supply pins should be bypassed to ground if the device is more than six inches away from the main supply (See Datasheet)", 12 BVPPOUT (power) "Each regulated output supplies power to the two PCMCIA card VPP pins which are typically tied together at the socket. Each VPPOUT output is current limited to approximately 330mA. Thermal shutdown provides a second level of (See Datasheet)", 13 ASENSE (in) "Two independent comparators and 4V references automatically switch the VPPOUT outputs from 5V to 3.3V depending upon the voltage sensed at the corresponding PCMCIA card socket VCC pin. The input current for these pins is (See Datasheet)", 14 VS (power) "Power is supplied to the device through the two supply pins which must be connected together at all times . The supply pins should be bypassed to ground if the device is more than six inches away from the main supply (See Datasheet)", 16 AVPPOUT (power) "Each regulated output supplies power to the two PCMCIA card VPP pins which are typically tied together at the socket. Each VPPOUT output is current limited to approximately 330mA. Thermal shutdown provides a second level of (See Datasheet)"
part B pins: 11 NC, 15 NC